# Altium footprint library IBB.PcbLib: 58 footprints (part 4 of 4)
Each footprint in its own frame and in the unit in brackets; x right, y up, seen from the top. Pads: shape width x height; smd on the part's side, far side on the other; paste and mask are expansions set on the pad; w line width, h text height; cw(c..) or ccw(c..) is an arc to the next point about the centre after c.
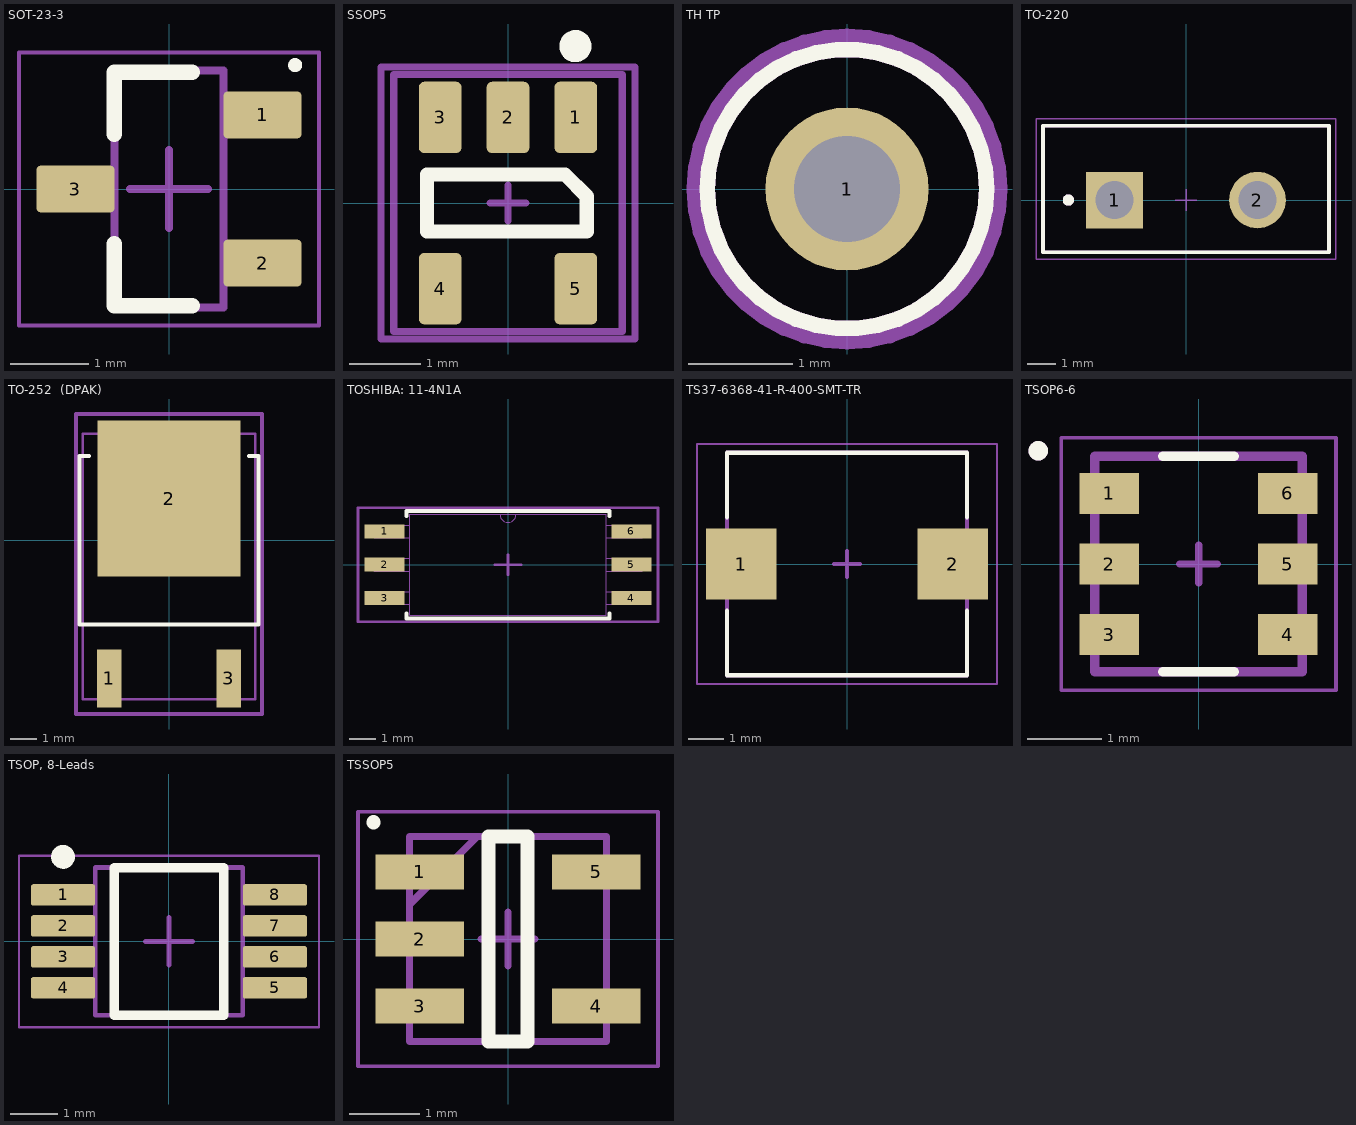
[diagram p3: the footprints below, top view; thin cyan lines are the x and y axes]

## SOT-23-3 [mm]
pads (3):
  rrect17% 1x0.6 smd: 1(1.2,0.95) 2(1.2,-0.95) 3(-1.2,0)
Top Overlay:
  circle w0.1: c1.619,1.59 r0.04
  lines w0.2: -0.7,-0.7 -0.7,-1.5 0.3,-1.5 ; -0.7,0.7 -0.7,1.5 0.3,1.5
Top Component Center:
  lines w0.1: -0.5,0 0.5,0 ; 0,-0.5 0,0.5
Top Designator:
  text ".Designator" at 2.252,-0.226 h1
Mechanical 13:
  lines w0.1: -0.7,-1.52 -0.7,1.52 0.7,1.52 0.7,-1.52 -0.7,-1.52
Top Component Outline:
  lines w0.05: -1.925,-1.75 -1.925,1.75 1.925,1.75 1.925,-1.75 -1.925,-1.75
3D body "DBZ0003AakaMF03A.stp": height 0.96, standoff -0.02, extent -1.257,-1.46 1.257,1.461

## SSOP5 [mm]
pads (5):
  rrect25% 0.6x1 smd: 1(0.95,1.2) 2(0,1.2) 3(-0.95,1.2) 4(-0.95,-1.2) 5(0.95,-1.2)
Top Overlay:
  circle w0.25: c0.944,2.199 r0.1
  lines w0.2: -1.134,-0.4 -1.134,0.4 0.8,0.4 1.104,0.096 1.104,-0.4 -1.134,-0.4
Top Component Center:
  lines w0.1: -0.254,0 0.254,0 ; 0,-0.254 0,0.254
Top Designator:
  text "'.Designator'" at -2.417,-0.226 h1
Top Assembly:
  lines w0.1: -1.6,-1.8 1.6,-1.8 1.6,1.8 -1.6,1.8 -1.6,-0.4 -1.6,-1.8
Mechanical 13:
  circle w0.25: c0.962,1.225 r0.1
Top Component Outline:
  lines w0.1: -1.778,-1.905 1.778,-1.905 1.778,1.905 -1.778,1.905 -1.778,-0.222 -1.778,-1.905
3D body "SSOP5.stp": height 1.12, standoff 0, extent -1.45,-1.4 1.45,1.4

## TH TP [mm]
pads (1):
  round 1.57 hole 1.02 paste-2539.97: 1(0,0)
Top Overlay:
  circle w0.15: c0,0 r1.345
Top 3D Body:
  circle w0.15: c0,0 r1.345
Top Component Center:
  lines w0.1: -0.5,0 0.5,0 ; 0,-0.5 0,0.5
Top Designator:
  text ".Designator" at -2.252,-0.226 h1
Top Assembly:
  lines w0.2: -1.445,0 cw(c0,0) 1.445,0 cw(c0,0) -1.445,0
3D body "Conn_Keystone_5000_eec.STEP": height 4.57, standoff -3.05, extent -1.27,-1.261 1.27,1.261

## TO-220 [mm]
pads (2):
  rect 2.01x2.01 / inner round 2.01 / far side rect 2.01x2.01 hole 1.34 mask+0.102: 1(-2.54,0)
  round 2.01 hole 1.34 mask+0.102: 2(2.54,0)
Top Overlay:
  circle w0.2: c-4.179,0 r0.1
  lines w0.127: -5.08,-1.863 -5.08,2.648 5.08,2.648 5.08,-1.863 -5.08,-1.863
Top Component Center:
  lines w0.05: -0.381,0 0.381,0 ; 0,-0.381 0,0.381
Top Designator:
  text ".Designator" at -3.434,-0.345 h1.52
Mechanical 13:
  circle w0.2: c-4.179,0 r0.1
  lines w0.127: -5.08,-1.863 -5.08,2.648 5.08,2.648 5.08,-1.863 -5.08,-1.863
Top Component Outline:
  lines w0.05: -5.33,-2.113 5.33,-2.113 5.33,2.897 -5.33,2.897 -5.33,-2.113
3D body "STPS10L60D.STEP": height 19.68, standoff -10.07, extent -5.1,-1.869 5.1,2.631

## TO-252  (DPAK) [mil] "1N65M5 STM"
pads (3):
  rect 37x87 smd paste+0: 1(-90,-208.5) 3(90,-208.5)
  rect 215x235 smd paste+0: 2(0,62.5)
Top Overlay:
  lines w6: -120.6,127 -135,127 -135,-127 135,-127 135,127 120.6,127
  text "." at -145,-230 h118.11
Top Designator:
  text ".Designator" at -112.54,-11.3 h50
Mechanical 13:
  lines w3.94: -130,-240 130,-240 130,160 -130,160 -130,-240
Top Component Outline:
  lines w6: -140,-262 140,-262 140,-132 140,132 140,190 -140,190 -140,132 -140,-132 -140,-262
3D body "DPAK_1N65M5_STM.step": height 96.06, standoff -0.04, extent -130,-240 130,157.01

## TOSHIBA: 11-4N1A [mil]
pads (6):
  rect 60x21 smd paste+0 mask+3.94: 1(-185,50) 2(-185,0) 3(-185,-50) 4(185,-50) 5(185,0) 6(185,50)
Top Overlay:
  lines w6: -152.5,-73.36 -152.5,-80.5 152.5,-80.5 152.5,-73.36 ; -152.5,73.36 -152.5,80.5 152.5,80.5 152.5,73.36
Top Component Center:
  lines w3.94: -20,0 20,0 ; 0,-15 0,15
Top Designator:
  text ".Designator" at -135.2,-13.57 h60
Mechanical 13:
  lines w0: -12,75.5 ccw(c0,75.5) 12,75.5
  lines w1: -201,-59.5 -147.5,-59.5 -147.5,-40.5 -201,-40.5 -201,-59.5 ; -201,-9.5 -147.5,-9.5 -147.5,9.5 -201,9.5 -201,-9.5 ; -201,40.5 -147.5,40.5 -147.5,59.5 -201,59.5 -201,40.5 ; -147.5,-75.5 -147.5,75.5 147.5,75.5 147.5,-75.5 -147.5,-75.5 ; 147.5,-59.5 201,-59.5 201,-40.5 147.5,-40.5 147.5,-59.5 ; 147.5,-9.5 201,-9.5 201,9.5 147.5,9.5 147.5,-9.5 ; 147.5,40.5 201,40.5 201,59.5 147.5,59.5 147.5,40.5
Top Component Outline:
  lines w3.94: -225,-85.5 -157.5,-85.5 157.5,-85.5 225,-85.5 225,85.5 157.5,85.5 -157.5,85.5 -225,85.5 -225,-85.5
3D body "SO6L_TOS.step": height 87.09, standoff 0, extent -200.98,-75.51 200.98,75.51

## TS37-6368-41-R-400-SMT-TR [mm]
pads (2):
  rect 2x2 smd paste+0 mask+0.102: 1(-3,0)
  rect 2x2 smd paste+0 mask+0.1: 2(3,0)
Top Overlay:
  lines w0.127: -3.4,-1.32 -3.4,-3.15 3.4,-3.15 3.4,-1.32 ; -3.4,1.32 -3.4,3.15 3.4,3.15 3.4,1.32
Top Component Center:
  lines w0.1: -0.381,0 0.381,0 ; 0,-0.381 0,0.381
Top Designator:
  text ".Designator" at -3.434,-0.345 h1.52
Top Assembly:
  lines w0.127: -3.4,-3.15 3.4,-3.15 3.4,3.15 -3.4,3.15 -3.4,-3.15
Top Component Outline:
  lines w0.05: -4.25,-3.4 4.25,-3.4 4.25,3.4 -4.25,3.4 -4.25,-3.4
3D body "step_temp.STEP": height 4.15, standoff 0.05, extent -3.45,-3.175 3.45,3.225

## TSOP6-6 [mm]
pads (6):
  rect 0.8x0.55 smd paste-0.05 mask+0.1: 1(-1.2,0.95) 2(-1.2,0) 3(-1.2,-0.95) 4(1.2,-0.95) 5(1.2,0) 6(1.2,0.95)
Top Overlay:
  circle w0.2: c-2.159,1.524 r0.03
  lines w0.127: -0.48,-1.45 0.48,-1.45 ; -0.48,1.45 0.48,1.45
Top 3D Body:
Top Component Center:
  lines w0.1: -0.254,0 0.254,0 ; 0,-0.254 0,0.254
Top Designator:
  text ".Designator" at -2.252,-0.226 h1
Mechanical 13:
  circle w0.2: c-2.159,1.524 r0.03
  lines w0.127: -1.397,-1.45 1.397,-1.45 1.397,1.45 -1.397,1.45 -1.397,-1.45
Top Component Outline:
  lines w0.05: -1.85,-1.7 1.85,-1.7 1.85,1.7 -1.85,1.7 -1.85,-1.7
3D body "74LVC1G17GV,125.STEP": height 1.1, standoff 0, extent -1.375,-1.45 1.375,1.45

## TSOP, 8-Leads [mm] "Body 3.1x3.1mm, Pitch 0.65mm"
pads (8):
  rrect22% 1.35x0.45 smd: 1(-2.225,0.975) 2(-2.225,0.325) 3(-2.225,-0.325) 4(-2.225,-0.975) 5(2.225,-0.975) 6(2.225,-0.325) 7(2.225,0.325) 8(2.225,0.975)
Top Overlay:
  circle w0.25: c-2.225,1.775 r0.125
  lines w0.2: -1.15,-1.55 -1.15,1.55 1.15,1.55 1.15,-1.55 -1.15,-1.55
Top Component Center:
  lines w0.1: -0.5,0 0.5,0 ; 0,-0.5 0,0.5
Top Designator:
  text ".Designator" at -1.578,-0.158 h0.7
Top Assembly:
  lines w0.1: -1.55,-1.55 1.55,-1.55 1.55,1.55 -1.55,1.55 -1.55,-1.55
Top Component Outline:
  lines w0.05: -3.15,-1.8 -3.15,1.8 3.15,1.8 3.15,-1.8 -3.15,-1.8
3D body "MUY08A_ASM.stp": height 0.94, standoff -0.02, extent -2.451,-1.499 2.451,1.499

## TSSOP5 [mm]
pads (5):
  rect 1.25x0.5 smd mask+0.1: 1(-1.25,0.95) 2(-1.25,0) 3(-1.25,-0.95) 4(1.25,-0.95) 5(1.25,0.95)
Top Overlay:
  lines w0.2: -1.905,1.651 -1.905,1.654 ; -0.275,-1.45 0.275,-1.45 0.275,1.45 -0.275,1.45 -0.275,-1.45
Top Component Center:
  lines w0.1: -0.381,0 0.381,0 ; 0,-0.381 0,0.381
Top Designator:
  text ".Designator" at -2.252,-0.226 h1
Top Assembly:
  lines w0.1: -1.385,0.5 -0.435,1.45 ; -1.397,-1.45 1.397,-1.45 1.397,1.45 -1.397,1.45 -1.397,-1.45
Top Component Outline:
  lines w0.05: -2.125,-1.8 2.125,-1.8 2.125,1.8 -2.125,1.8 -2.125,-1.8
3D body "step_temp.STEP": height 1.1, standoff 0, extent -1.375,-1.45 1.375,1.45